# Altium footprint library moya.PcbLib: 35 footprints (part 2 of 3)
Each footprint in its own frame and in the unit in brackets; x right, y up, seen from the top. Pads: shape width x height; smd on the part's side, far side on the other; paste and mask are expansions set on the pad; w line width, h text height; cw(c..) or ccw(c..) is an arc to the next point about the centre after c.
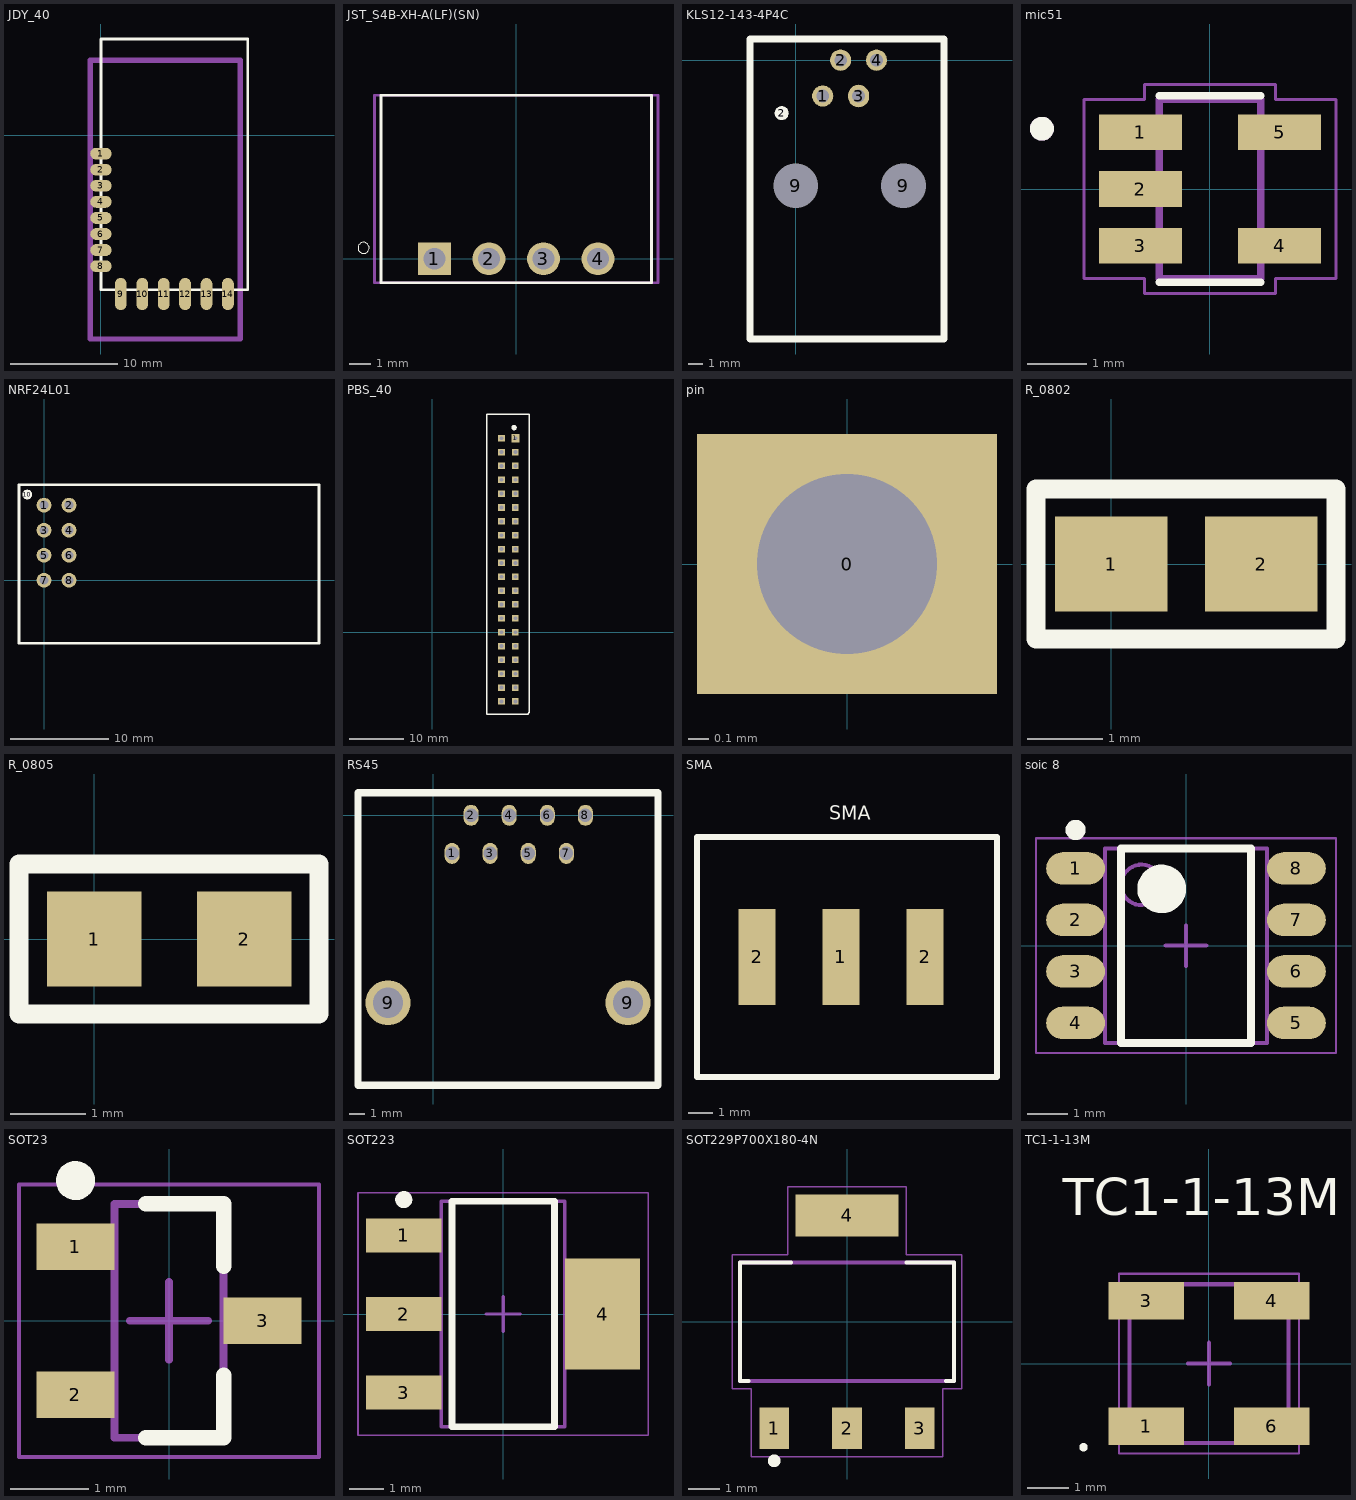
[diagram p1: the footprints below, top view; thin cyan lines are the x and y axes]

## JDY_40 [mm]
pads (14):
  oval 2x1.1 smd: 1(0,-1.7) 2(0,-3.2) 3(0,-4.7) 4(0,-6.2) 5(0,-7.7) 6(0,-9.2) 7(0,-10.7) 8(0,-12.2)
  oval 1.1x3 smd: 9(1.85,-14.8) 10(3.85,-14.8) 11(5.85,-14.8) 12(7.85,-14.8) 13(9.85,-14.8) 14(11.85,-14.8)
Top Overlay:
  lines w0.254: 0,-14.4 0,9 13.7,9 13.7,-14.4 0,-14.4
Mechanical 13:
  lines w0.5: 11,7 13,7 ; 13,7 -1,7 -1,-19 13,-19 13,6 13,7
3D body "Сборка1.STEP": height 2.83, standoff 0, extent -0.075,-14.075 13.625,8.925

## JST_S4B-XH-A(LF)(SN) [mm]
pads (4):
  rect 1.508x1.508 hole 1: 1(-3.75,0)
  round 1.508 hole 1: 2(-1.25,0) 3(1.25,0) 4(3.75,0)
Top Overlay:
  circle w0: c-7,0.5 r0.254
  lines w0.127: -6.2,-1.1 6.2,-1.1 6.2,7.5 -6.2,7.5 -6.2,-1.1
Mechanical 16:
  lines w0.127: -6.5,-1.1 6.5,-1.1 6.5,7.5 -6.5,7.5 -6.5,-1.1
3D body "User Library-DS1069-4 MR TypeB.STEP": height 5.75, standoff -3.4, extent -6.2,-0.3 6.2,7.34

## KLS12-143-4P4C [mm]
pads (7):
  round 1.5 hole 0.9 paste+0: 1(1.905,-2.54) 2(3.175,0) 4(5.715,0)
  round 1 on Top Overlay: 2(-1,-3.75)
  oval 1.5x1.6 hole 0.9 paste+0: 3(4.445,-2.54)
  round 3 hole 3.17 unplated paste+0: 9(0,-8.89) 9(7.62,-8.89)
Top Overlay:
  lines w0.5: -3.25,-19.75 -3.25,1.5 10.5,1.5 10.5,-19.75 -3.25,-19.75
3D body: height 16, standoff 0, extent -3.25,-19.75 10.5,1.5

## mic51 [mm]
pads (5):
  rect 1.39x0.6 smd: 1(-1.165,0.95) 2(-1.165,0) 3(-1.165,-0.95) 4(1.165,-0.95) 5(1.165,0.95)
Top Overlay:
  circle w0.2: c-2.813,1.009 r0.1
  lines w0.127: -0.85,-1.564 0.85,-1.564 ; -0.85,1.564 0.85,1.564
Mechanical 4:
  circle w0.2: c-2.813,1.009 r0.1
  circle w0.2: c-2.813,1.009 r0.1
  lines w0.127: -0.85,-1.5 0.85,-1.5 ; -0.85,-1.5 -0.85,1.5 ; -0.85,-1.5 0.85,-1.5 ; -0.85,-1.5 -0.85,1.5 ; -0.85,1.5 0.85,1.5 ; -0.85,1.5 0.85,1.5 ; 0.85,-1.5 0.85,1.5 ; 0.85,-1.5 0.85,1.5
Mechanical 16:
  lines w0.05: -2.11,-1.5 -1.1,-1.5 -1.1,-1.75 1.1,-1.75 1.1,-1.5 2.11,-1.5 2.11,1.5 1.1,1.5 1.1,1.75 -1.1,1.75 -1.1,1.5 -2.11,1.5 -2.11,-1.5
3D body "ALSRobot-SOT23-5R.STEP": height 1.3, standoff 0, extent -1.5,-1.5 1.5,1.5

## NRF24L01 [mm]
pads (9):
  round 1.5 hole 0.9: 1(0,7.62) 2(2.54,7.62) 3(0,5.08) 4(2.54,5.08) 5(0,2.54) 6(2.54,2.54) 7(0,0) 8(2.54,0)
  round 1 on Top Overlay: 10(-1.7,8.7)
Top Overlay:
  lines w0.254: -2.54,-6.4 -2.54,9.7 27.9,9.7 27.9,-6.4 -2.54,-6.4
3D body "User Library-NRF24L01.STEP": height 6.4, standoff -6.05, extent -1.6,-5.9 27.4,9.1

## PBS_40 [mm]
pads (41):
  rect 1.5x1.524 hole 0.7: 1(15.24,35.56)
  rect 1.2x1.2 hole 0.7: 2(12.7,35.56) 3(15.24,33.02) 4(12.7,33.02) 5(15.24,30.48) 6(12.7,30.48) 7(15.24,27.94) 8(12.7,27.94) 9(15.24,25.4) 10(12.7,25.4) 11(15.24,22.86) 12(12.7,22.86) 13(15.24,20.32) 14(12.7,20.32) 15(15.24,17.78) 16(12.7,17.78) 17(15.24,15.24) 18(12.7,15.24) 19(15.24,12.7) 20(12.7,12.7) 21(15.24,10.16) 22(12.7,10.16) 23(15.24,7.62) 24(12.7,7.62) 25(15.24,5.08) 26(12.7,5.08) 27(15.24,2.54) 28(12.7,2.54) 29(15.24,0) 30(12.7,0) 31(15.24,-2.54) 32(12.7,-2.54) 33(15.24,-5.08) 34(12.7,-5.08) 35(15.24,-7.62) 36(12.7,-7.62) 37(15.24,-10.16) 38(12.7,-10.16) 39(15.24,-12.7) 40(12.7,-12.7)
  round 1 on Top Overlay paste+0: 10(15,37.5)
Top Overlay:
  lines w0.254: 10,-15 10,10 10,40 17.78,40 17.78,-2.54 17.78,-14.72 17.5,-15 15,-15 10,-15

## pin [mm] "Molded Capacitor, 2-Leads, Body 3.20x1.60mm, IPC Medium Density"
height 1.8
pads (1):
  rect 1.5x1.3 hole 0.9: 0(0,0)

## R_0802 [mm]
pads (2):
  rect 1.5x1.27 smd: 1(0,0) 2(2,0)
Top Overlay:
  lines w0.254: -1,-1 -1,1 3,1 3,-1 -1,-1

## R_0805 [mm]
pads (2):
  rect 1.26x1.27 smd: 1(0,0) 2(2,0)
Top Overlay:
  lines w0.254: -1,-1 3,-1 3,1 -1,1 -1,-1

## RS45 [mm]
pads (10):
  oval 1x1.4 hole 0.9 unplated paste+0: 1(1.27,-2.54) 2(2.54,0) 3(3.81,-2.54) 4(5.08,0) 5(6.35,-2.54) 6(7.62,0) 7(8.89,-2.54) 8(10.16,0)
  round 3 hole 2 unplated paste+0: 9(-3,-12.5) 9(13,-12.5)
Top Overlay:
  lines w0.5: -5,-18 15,-18 15,1.5 -5,1.5 -5,-18
3D body "rs45.STEP": height 12.7, standoff -3.5, extent -2.54,-16.49 12.76,1.25

## SMA [mm]
pads (3):
  rect 1.524x4 smd: 1(-1236.5,-1235) 2(-1240,-1235) 2(-1233,-1235)
Top Overlay:
  lines w0.254: -1242.5,-1240 -1242.5,-1230 -1230,-1230 -1230,-1240 -1242.5,-1240
  text "SMA" at -1237,-1229.5 h1

## soic 8 [mm] "SOIC, 8-Leads, Body 4.90x3.90mm, Pitch 1.27mm, IPC Medium Density"
height 2.65
pads (8):
  oval 1.45x0.8 smd: 1(-2.725,1.905) 2(-2.725,0.635) 3(-2.725,-0.635) 4(-2.725,-1.905) 5(2.725,-1.905) 6(2.725,-0.635) 7(2.725,0.635) 8(2.725,1.905)
Top Overlay:
  circle w0.25: c-2.725,2.855 r0.125
  circle w0.6: c-0.6,1.4 r0.3
  lines w0.2: -1.6,-2.4 -1.6,2.4 1.6,2.4 1.6,-2.4 -1.6,-2.4
Mechanical 13:
  circle w0.1: c-1.1,1.5 r0.5
  lines w0.1: -2,-2.4 -2,2.4 2,2.4 2,-2.4 -2,-2.4
Mechanical 15:
  lines w0.05: -3.7,-2.65 -3.7,2.65 3.7,2.65 3.7,-2.65 -3.7,-2.65
  lines w0.1: -0.5,0 0.5,0 ; 0,-0.5 0,0.5
3D body: height 2.65, standoff 0.1, extent -2,-2.4 2,2.4

## SOT23 [mm] "SOT23"
height 1.1
pads (3):
  rect 1x0.6 smd: 1(-1.2,0.95) 2(-1.2,-0.95) 3(1.2,0)
Top Overlay:
  circle w0.25: c-1.2,1.8 r0.125
  lines w0.2: -0.3,-1.5 0.7,-1.5 0.7,-0.7 ; -0.3,1.5 0.7,1.5 0.7,0.7
Mechanical 13:
  lines w0.1: -0.7,-1.5 -0.7,1.5 0.7,1.5 0.7,-1.5 -0.7,-1.5
Mechanical 15:
  lines w0.05: -1.925,-1.75 -1.925,1.75 1.925,1.75 1.925,-1.75 -1.925,-1.75
  lines w0.1: -0.5,0 0.5,0 ; 0,-0.5 0,0.5
3D body: height 1.1, standoff 0.05, extent -0.7,-1.5 0.7,1.5

## SOT223 [mm]
height 1.6
pads (4):
  rect 2.2x1 smd: 1(-2.91,2.3) 2(-2.91,0) 3(-2.91,-2.3)
  rect 2.2x3.25 smd: 4(2.91,0)
Top Overlay:
  circle w0.25: c-2.91,3.35 r0.125
  lines w0.2: -1.5,-3.3 -1.5,3.3 1.5,3.3 1.5,-3.3 -1.5,-3.3
Mechanical 13:
  lines w0.1: -1.81,-3.3 -1.81,3.3 1.81,3.3 1.81,-3.3 -1.81,-3.3
Mechanical 15:
  lines w0.05: -4.25,-3.55 -4.25,3.55 4.25,3.55 4.25,-3.55 -4.25,-3.55
  lines w0.1: -0.5,0 0.5,0 ; 0,-0.5 0,0.5
3D body: height 1.6, standoff 0.02, extent -1.81,-3.3 1.81,3.3

## SOT229P700X180-4N [mm]
pads (4):
  rect 0.93x1.31 smd: 1(-2.29,-3.345) 2(0,-3.345) 3(2.29,-3.345)
  rect 3.24x1.31 smd: 4(0,3.345)
Top Overlay:
  circle w0.2: c-2.29,-4.373 r0.1
  lines w0.127: -3.1,-1.86 -3.36,-1.86 -3.36,1.86 -1.76,1.86 ; 1.87,1.86 3.36,1.86 3.36,-1.86 3.11,-1.86
Mechanical 4:
  lines w0.127: -3.36,-1.86 -3.36,1.86 ; -3.36,-1.86 3.36,-1.86 ; -3.36,-1.86 -3.36,1.86 ; -3.36,-1.86 3.36,-1.86 ; -3.36,1.86 3.36,1.86 ; -3.36,1.86 3.36,1.86 ; 3.36,-1.86 3.36,1.86 ; 3.36,-1.86 3.36,1.86
Mechanical 16:
  lines w0.05: -3.61,-2.11 -3.61,2.11 -1.87,2.11 -1.87,4.25 1.87,4.25 1.87,2.11 3.61,2.11 3.61,-2.11 3.01,-2.11 3.01,-4.25 -3.01,-4.25 -3.01,-2.11 -3.61,-2.11

## TC1-1-13M [mm] "DFN, 4-Leads, Body 3.80x3.80mm, Pitch 3.80mm, IPC Medium Density"
height 0.45
pads (4):
  rect 1.8x0.9 smd: 1(-1.5,-1.5) 3(-1.5,1.5) 4(1.5,1.5) 6(1.5,-1.5)
Top Overlay:
  circle w0.1: c-3,-2 r0.05
  text "TC1-1-13M" at -3.5,3.25 h1.52
Mechanical 13:
  lines w0.1: -1.9,-1.9 -1.9,1.9 1.9,1.9 1.9,-1.9 -1.9,-1.9
Mechanical 15:
  lines w0.05: -2.15,-2.15 -2.15,2.15 2.15,2.15 2.15,-2.15 -2.15,-2.15
  lines w0.1: -0.5,0 0.5,0 ; 0,-0.5 0,0.5
3D body: height 0.45, standoff 0, extent -1.9,-1.9 1.9,1.9